# EAGLE library part MAX31850 (library Maxim)
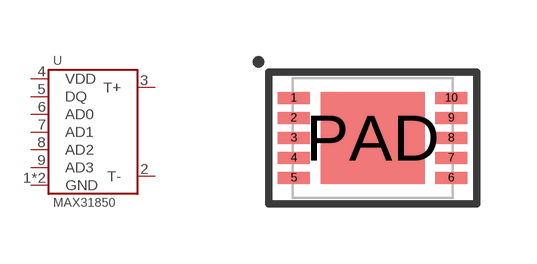
[diagram p9: symbol with the pads of TDFN-10-3X4; footprint TDFN-10-3X4]

Designator prefix U

## MAX31850KATB+  [TDFN-10-3X4]
1  GND
2  T-
3  T+
4  VDD
5  DQ
6  AD0
7  AD1
8  AD2
9  AD3
PAD  GND

## Footprint TDFN-10-3X4 (pad centres in mm)
smd 0.8 x 0.3: 1 -1.97,1; 2 -1.97,0.5; 3 -1.97,0; 4 -1.97,-0.5; 5 -1.97,-1; 6 1.97,-1; 7 1.97,-0.5; 8 1.97,0; 9 1.97,0.5; 10 1.97,1
smd 2.6 x 2.3: PAD 0,0